# Altium footprint library UbiWatch_PcbLib.PcbLib: 22 footprints (part 1 of 2)
Each footprint in its own frame and in the unit in brackets; x right, y up, seen from the top. Pads: shape width x height; smd on the part's side, far side on the other; paste and mask are expansions set on the pad; w line width, h text height; cw(c..) or ccw(c..) is an arc to the next point about the centre after c.
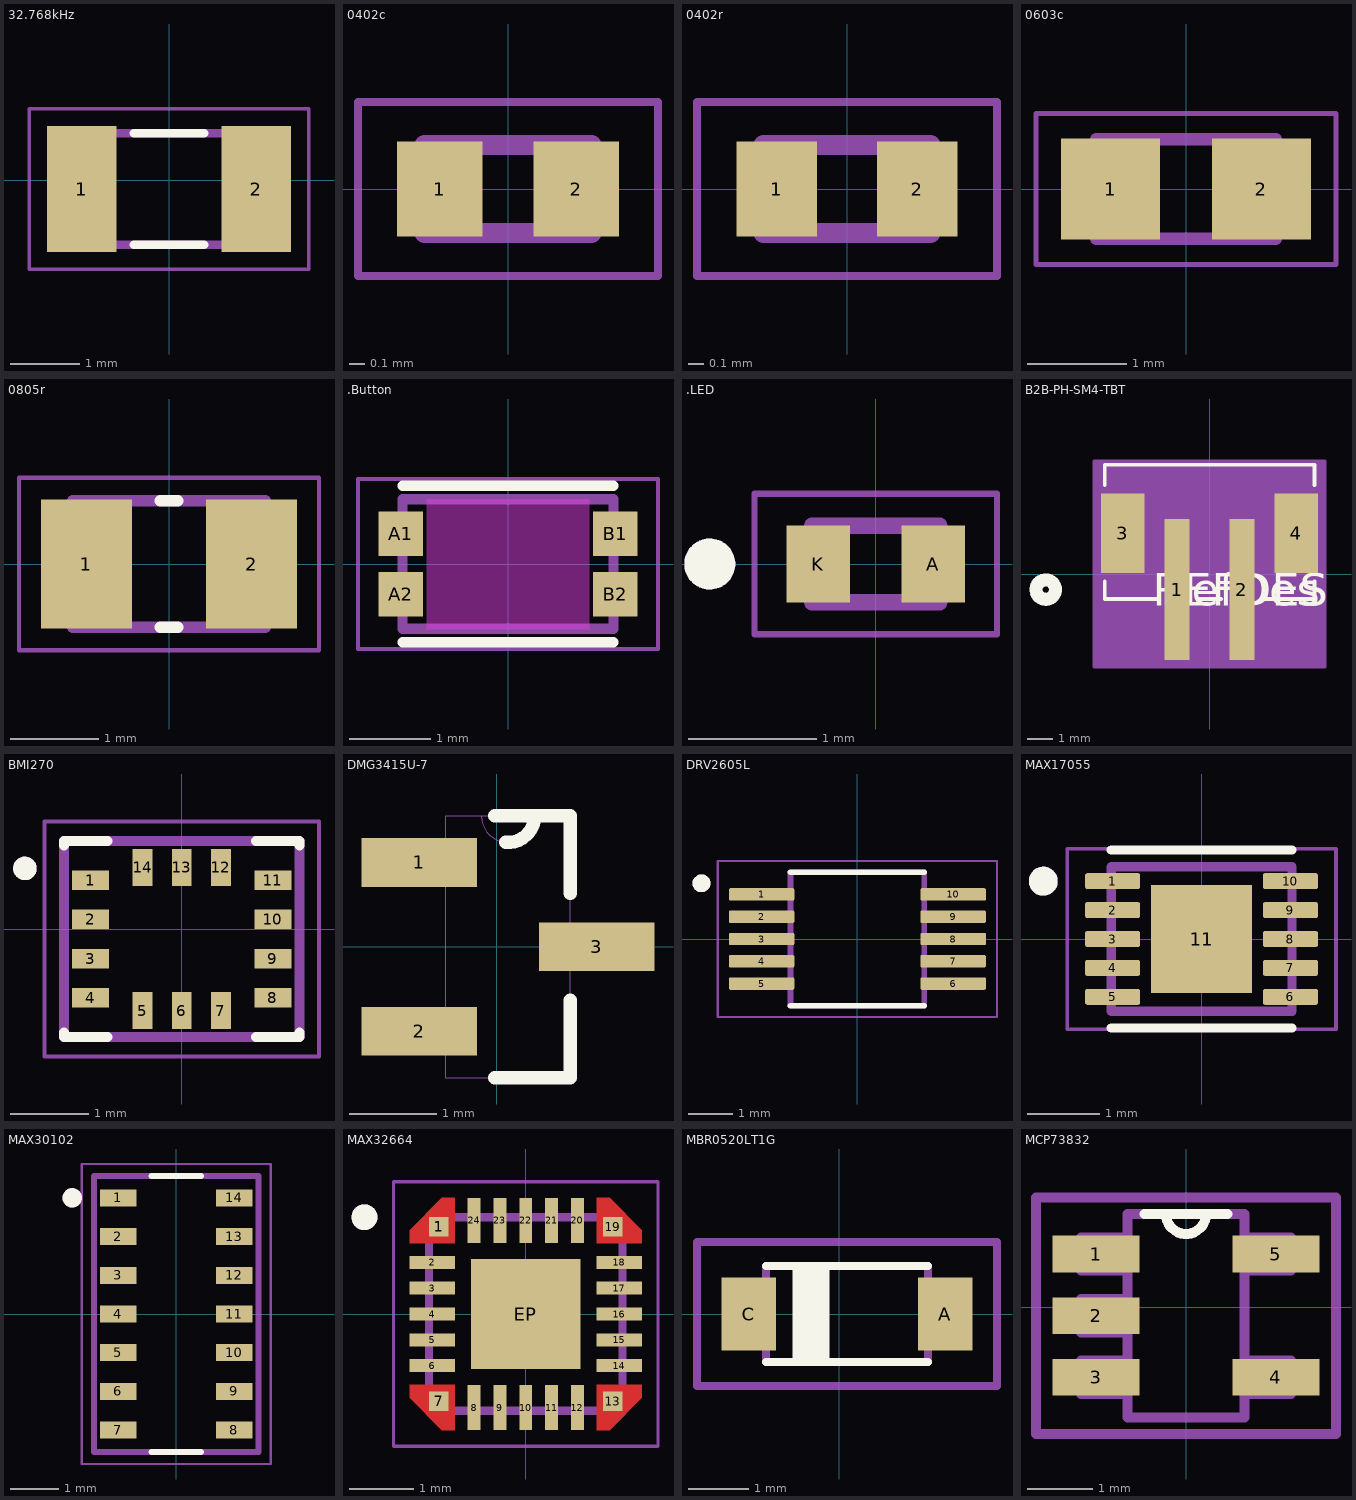
[diagram p0: the footprints below, top view; thin cyan lines are the x and y axes]

## 32.768kHz [mm]
pads (2):
  rect 1x1.8 smd: 1(-1.25,-0.127) 2(1.25,-0.127)
Top Overlay:
  lines w0.127: -0.5,-0.927 0.5,-0.927 ; -0.5,0.673 0.5,0.673
Mechanical 13:
  lines w0.127: -1.65,-0.927 1.65,-0.927 1.65,0.673 -1.65,0.673 -1.65,-0.927
Mechanical 15:
  lines w0.05: -2,-1.277 2,-1.277 2,1.023 -2,1.023 -2,-1.277
3D body "step_temp.STEP": height 0.9, standoff 0, extent -1.6,-0.877 1.6,0.623

## 0402c [mm]
pads (2):
  rect 0.54x0.6 smd: 1(-0.432,0) 2(0.432,0)
Mechanical 13:
  lines w0.127: -0.53,-0.28 -0.53,0.28 0.53,0.28 0.53,-0.28 -0.53,-0.28
Mechanical 15:
  lines w0.05: -0.95,-0.55 -0.95,0.55 0.95,0.55 0.95,-0.55 -0.95,-0.55
3D body "step_temp.STEP": height 0.55, standoff 0, extent -0.5,-0.25 0.5,0.25

## 0402r [mm]
pads (2):
  rect 0.51x0.6 smd: 1(-0.445,0) 2(0.445,0)
Mechanical 13:
  lines w0.127: -0.53,-0.28 0.53,-0.28 0.53,0.28 -0.53,0.28 -0.53,-0.28
Mechanical 15:
  lines w0.05: -0.95,-0.55 0.95,-0.55 0.95,0.55 -0.95,0.55 -0.95,-0.55
3D body "step_temp.STEP": height 0.4, standoff 0, extent -0.5,-0.25 0.5,0.25

## 0603c [mm]
pads (2):
  rect 1x1.02 smd: 1(-0.759,0) 2(0.759,0)
Mechanical 13:
  lines w0.127: -0.9,-0.5 0.9,-0.5 0.9,0.5 -0.9,0.5 -0.9,-0.5
Mechanical 15:
  lines w0.05: -1.508,-0.758 1.508,-0.758 1.508,0.758 -1.508,0.758 -1.508,-0.758
3D body "step_temp.STEP": height 1, standoff 0, extent -0.8,-0.4 0.8,0.4

## 0805r [mm]
pads (2):
  rect 1.04x1.47 smd: 1(-0.94,0) 2(0.94,0)
Top Overlay:
  lines w0.127: -0.1,-0.72 0.1,-0.72 ; -0.1,0.72 0.1,0.72
Mechanical 13:
  lines w0.127: -1.1,-0.72 -1.1,0.72 1.1,0.72 1.1,-0.72 -1.1,-0.72
Mechanical 15:
  lines w0.05: -1.708,-0.983 -1.708,0.983 1.708,0.983 1.708,-0.983 -1.708,-0.983
3D body "step_temp.STEP": height 0.7, standoff 0, extent -1,-0.625 1,0.625

## .Button [mm]
pads (4):
  rect 0.55x0.55 smd paste-0.05: A1(-1.325,0.375) A2(-1.325,-0.375) B1(1.325,0.375) B2(1.325,-0.375)
Top Overlay:
  lines w0.127: -1.3,-0.964 1.3,-0.964 ; -1.3,0.964 1.3,0.964
Keep-Out Layer:
  region: 1,-0.802 -1.002,-0.802 -1.002,0.8 1,0.8
Mechanical 13:
  lines w0.127: -1.3,-0.8 -1.3,0.8 1.3,0.8 1.3,-0.8 -1.3,-0.8
Mechanical 15:
  lines w0.05: -1.85,-1.05 -1.85,1.05 1.85,1.05 1.85,-1.05 -1.85,-1.05
3D body "step_temp.STEP": height 0.63, standoff 0, extent -1.5,-0.9 1.5,0.9

## .LED [mm]
pads (2):
  rect 0.5x0.6 smd: A(0.45,0) K(-0.45,0)
Top Overlay:
  circle w0.2: c-1.3,0 r0.1
Mechanical 13:
  circle w0.2: c-1.3,0 r0.1
  lines w0.127: -0.5,-0.3 0.5,-0.3 0.5,0.3 -0.5,0.3 -0.5,-0.3
Mechanical 15:
  lines w0.05: -0.95,-0.55 -0.95,0.55 0.95,0.55 0.95,-0.55 -0.95,-0.55
3D body "step_temp.STEP": height 0.21, standoff -0.04, extent -0.5,-0.3 0.5,0.3

## B2B-PH-SM4-TBT [mil]
pads (4):
  rect 39x217 smd paste+0 mask+0: 1(-50,-23.74) 2(50,-23.74)
  rect 67x122 smd paste+0 mask+0: 3(-133.86,63.15) 4(133.86,63.15)
Top Overlay:
  circle w20: c-252.36,-23.74 r15
  lines w6: -161.5,-10.95 -161.5,-38.5 -82.6,-38.5 ; -161.5,137.25 -161.5,168.5 161.5,168.5 161.5,137.25 ; -17.4,-38.5 17.4,-38.5 ; 82.6,-38.5 161.5,-38.5 161.5,-10.95
  text "RefDes" at -75,-48.74 h50
  text "REFDES" at -87.5,-48.74 h50
Bottom Overlay:
  circle w20: c-252.36,-23.74 r15
Mechanical 13:
  circle w20: c-50,-23.74 r15
  lines w1: -156.5,-33.5 156.5,-33.5 156.5,163.5 -156.5,163.5 -156.5,-33.5
  text "RefDes2" at -87.5,-48.74 h50
Mechanical 15:
  region: 177.36,173.5 -177.36,173.5 -177.36,-142.24 177.36,-142.24
  lines w6: -177.36,-142.24 -177.36,173.5 177.36,173.5 177.36,-142.24 -177.36,-142.24

## BMI270 [mm]
pads (14):
  rect 0.475x0.25 smd: 1(-1.162,0.623) 2(-1.162,0.123) 3(-1.162,-0.377) 4(-1.162,-0.877) 8(1.162,-0.877) 9(1.162,-0.377) 10(1.162,0.123) 11(1.162,0.623)
  rect 0.25x0.475 smd: 5(-0.5,-1.04) 6(0,-1.04) 7(0.5,-1.04) 12(0.5,0.786) 13(0,0.786) 14(-0.5,0.786)
Top Overlay:
  circle w0.15: c-2,0.773 r0.075
  lines w0.127: -1.5,-1.322 -1.5,-1.377 -0.945,-1.377 ; -1.5,1.068 -1.5,1.123 -0.945,1.123 ; 0.945,-1.377 1.5,-1.377 1.5,-1.322 ; 0.945,1.123 1.5,1.123 1.5,1.068
Mechanical 13:
  circle w0.15: c-2,0.773 r0.075
  lines w0.127: -1.5,-1.377 -1.5,1.123 1.5,1.123 1.5,-1.377 -1.5,-1.377
Mechanical 15:
  lines w0.05: -1.75,-1.627 1.75,-1.627 1.75,1.373 -1.75,1.373 -1.75,-1.627
3D body "step_temp.STEP": height 0.87, standoff 0, extent -1.5,-1.377 1.5,1.123

## DMG3415U-7 [mil]
pads (3):
  rect 52x22 smd: 1(-35,38) 2(-35,-38) 3(45,0)
Top Overlay:
  lines w6: -1,-59 33,-59 33,-24 ; -1,59 17,59 33,59 33,24 ; 3.96,47 ccw(c5,58.96) 17,58.96
Mechanical 13:
  lines w0: -23,-48 -44,-48 -44,-28 -23,-28 ; -23,-48 -23,-28 ; -23,-48 -23,-59 33,-59 33,-10 ; -23,-28 -23,28 ; -23,28 -44,28 -44,48 -23,48 ; -23,28 -23,48 ; -23,48 -23,59 -7,59 ; -7,59 ccw(c5,59) 17,59 ; -7,59 17,59 ; 17,59 33,59 33,10 ; 33,-10 54,-10 54,10 33,10 ; 33,-10 33,10
3D body "step_temp.STEP": height 44.88, standoff 0, extent -42.24,-57.09 52.24,57.09

## DRV2605L [mm]
pads (10):
  rrect25% 1.47x0.28 smd paste+0 mask+0.102: 1(-2.15,1) 2(-2.15,0.5) 3(-2.15,0) 4(-2.15,-0.5) 5(-2.15,-1) 6(2.15,-1) 7(2.15,-0.5) 8(2.15,0) 9(2.15,0.5) 10(2.15,1)
Top Overlay:
  circle w0.2: c-3.5,1.25 r0.1
  lines w0.127: -1.5,-1.5 1.5,-1.5 ; -1.5,1.5 1.5,1.5
Mechanical 13:
  circle w0.2: c-3.5,1.25 r0.1
  lines w0.127: -1.5,-1.5 1.5,-1.5 1.5,1.5 -1.5,1.5 -1.5,-1.5
Mechanical 15:
  lines w0.05: -3.135,-1.75 3.135,-1.75 3.135,1.75 -3.135,1.75 -3.135,-1.75
3D body "step_temp.STEP": height 1.1, standoff 0, extent -2.45,-1.5 2.45,1.5

## MAX17055 [mm]
pads (11):
  rrect25% 0.76x0.22 smd: 1(-1.23,0.8) 2(-1.23,0.4) 3(-1.23,0) 4(-1.23,-0.4) 5(-1.23,-0.8) 6(1.23,-0.8) 7(1.23,-0.4) 8(1.23,0) 9(1.23,0.4) 10(1.23,0.8)
  rect 1.4x1.5 smd paste-2: 11(0,0)
Top Overlay:
  circle w0.2: c-2.19,0.8 r0.1
  lines w0.127: -1.25,-1.23 1.25,-1.23 ; -1.25,1.23 1.25,1.23
Top Paste:
  region: 0.44,-0.47 -0.44,-0.47 -0.44,0.47 0.44,0.47
Mechanical 13:
  circle w0.2: c-2.19,0.8 r0.1
  lines w0.127: -1.25,-1 -1.25,1 1.25,1 1.25,-1 -1.25,-1
Mechanical 15:
  lines w0.05: -1.86,-1.25 -1.86,1.25 1.86,1.25 1.86,-1.25 -1.86,-1.25

## MAX30102 [mm]
pads (14):
  rect 0.75x0.35 smd: 1(-1.2,2.4) 2(-1.2,1.6) 3(-1.2,0.8) 4(-1.2,0) 5(-1.2,-0.8) 6(-1.2,-1.6) 7(-1.2,-2.4) 8(1.2,-2.4) 9(1.2,-1.6) 10(1.2,-0.8) 11(1.2,0) 12(1.2,0.8) 13(1.2,1.6) 14(1.2,2.4)
Top Overlay:
  circle w0.2: c-2.15,2.4 r0.1
  lines w0.127: -0.505,-2.85 0.505,-2.85 ; -0.505,2.85 0.505,2.85
Mechanical 13:
  circle w0.2: c-2.15,2.4 r0.1
  lines w0.127: -1.7,-2.85 1.7,-2.85 1.7,2.85 -1.7,2.85 -1.7,-2.85
Mechanical 15:
  lines w0.05: -1.95,-3.1 1.95,-3.1 1.95,3.1 -1.95,3.1 -1.95,-3.1

## MAX32664 [mm]
pads (25):
  rect 0.3x0.3 smd paste-1 mask+0: 1(-1.35,1.35) 7(-1.35,-1.35) 13(1.35,-1.35) 19(1.35,1.35)
  rect 0.7x0.2 smd: 2(-1.45,0.8) 3(-1.45,0.4) 4(-1.45,0) 5(-1.45,-0.4) 6(-1.45,-0.8) 14(1.45,-0.8) 15(1.45,-0.4) 16(1.45,0) 17(1.45,0.4) 18(1.45,0.8)
  rect 0.2x0.7 smd: 8(-0.8,-1.45) 9(-0.4,-1.45) 10(0,-1.45) 11(0.4,-1.45) 12(0.8,-1.45) 20(0.8,1.45) 21(0.4,1.45) 22(0,1.45) 23(-0.4,1.45) 24(-0.8,1.45)
  rect 1.7x1.7 smd paste-0.312: EP(0,0)
Top Layer:
  region: 1.8,-1.3 1.3,-1.8 1.1,-1.8 1.1,-1.1 1.8,-1.1
  region: 1.8,1.3 1.8,1.1 1.1,1.1 1.1,1.8 1.3,1.8
  region: -1.1,-1.8 -1.3,-1.8 -1.8,-1.3 -1.8,-1.1 -1.1,-1.1
  region: -1.1,1.1 -1.8,1.1 -1.8,1.3 -1.3,1.8 -1.1,1.8
Top Overlay:
  circle w0.2: c-2.5,1.5 r0.1
Top Paste:
  region: 1.8,-1.3 1.3,-1.8 1.1,-1.8 1.1,-1.1 1.8,-1.1
  region: 1.8,1.3 1.8,1.1 1.1,1.1 1.1,1.8 1.3,1.8
  region: -1.1,-1.8 -1.3,-1.8 -1.8,-1.3 -1.8,-1.1 -1.1,-1.1
  region: -1.1,1.1 -1.8,1.1 -1.8,1.3 -1.3,1.8 -1.1,1.8
Top Solder:
  region: 1.9,-1.341 1.341,-1.9 1,-1.9 1,-1 1.9,-1
  region: 1.9,1.341 1.9,1 1,1 1,1.9 1.341,1.9
  region: -1,-1.9 -1.341,-1.9 -1.9,-1.341 -1.9,-1 -1,-1
  region: -1,1 -1.9,1 -1.9,1.341 -1.341,1.9 -1,1.9
Mechanical 13:
  circle w0.2: c-2.5,1.5 r0.1
  lines w0.127: -1.5,-1.5 -1.5,1.5 1.5,1.5 1.5,-1.5 -1.5,-1.5
Mechanical 15:
  lines w0.05: -2.05,-2.05 2.05,-2.05 2.05,2.05 -2.05,2.05 -2.05,-2.05

## MBR0520LT1G [mm]
pads (2):
  rect 0.91x1.22 smd: A(1.762,0) C(-1.508,0)
Top Overlay:
  region: -0.173,-0.801 -0.774,-0.801 -0.774,0.8 -0.173,0.8
  lines w0.127: -1.223,-0.8 1.477,-0.8 ; -1.223,0.8 1.477,0.8
Mechanical 13:
  lines w0.127: -1.223,-0.8 -1.223,0.8 ; 1.477,-0.8 1.477,0.8
Mechanical 15:
  lines w0.127: -2.373,-1.2 -2.373,1.2 2.627,1.2 2.627,-1.2 -2.373,-1.2
3D body "step_temp.STEP": height 1.35, standoff 0, extent -1.713,-0.8 1.967,0.8

## MCP73832 [mil]
pads (5):
  rect 52x22 smd: 1(-54,32) 2(-54,-5) 3(-54,-42) 4(54,-42) 5(54,32)
Top Overlay:
  lines w6: -25,56 -12,56 ; 25,56 12,56 ; -12,56 ccw(c0,56) 12,56 ; -12,56 12,56
Mechanical 13:
  lines w6: -35,-52 -35,-66 35,-66 35,-52 ; -35,-52 -35,-32 ; -35,-52 -63,-52 -63,-32 -35,-32 ; -35,-32 -35,-15 ; -35,-15 -35,5 ; -35,-15 -63,-15 -63,5 -35,5 ; -35,5 -35,22 ; -35,22 -35,42 ; -35,22 -63,22 -63,42 -35,42 ; -35,42 -35,56 -12,56 ; -12,56 ccw(c0,56) 12,56 ; -12,56 12,56 ; 12,56 35,56 35,42 ; 35,-52 35,-32 ; 35,-52 63,-52 63,-32 35,-32 ; 35,-32 35,22 ; 35,22 35,42 ; 35,22 63,22 63,42 35,42
Mechanical 15:
  lines w6: -90,-76 90,-76 90,66 -90,66 -90,-76
3D body "step_temp.STEP": height 57.09, standoff 0, extent -57.09,-58.15 57.09,48.15